# Altium schematic symbol library comp_lib_schem.SchLib: 292 symbols (part 4 of 4)
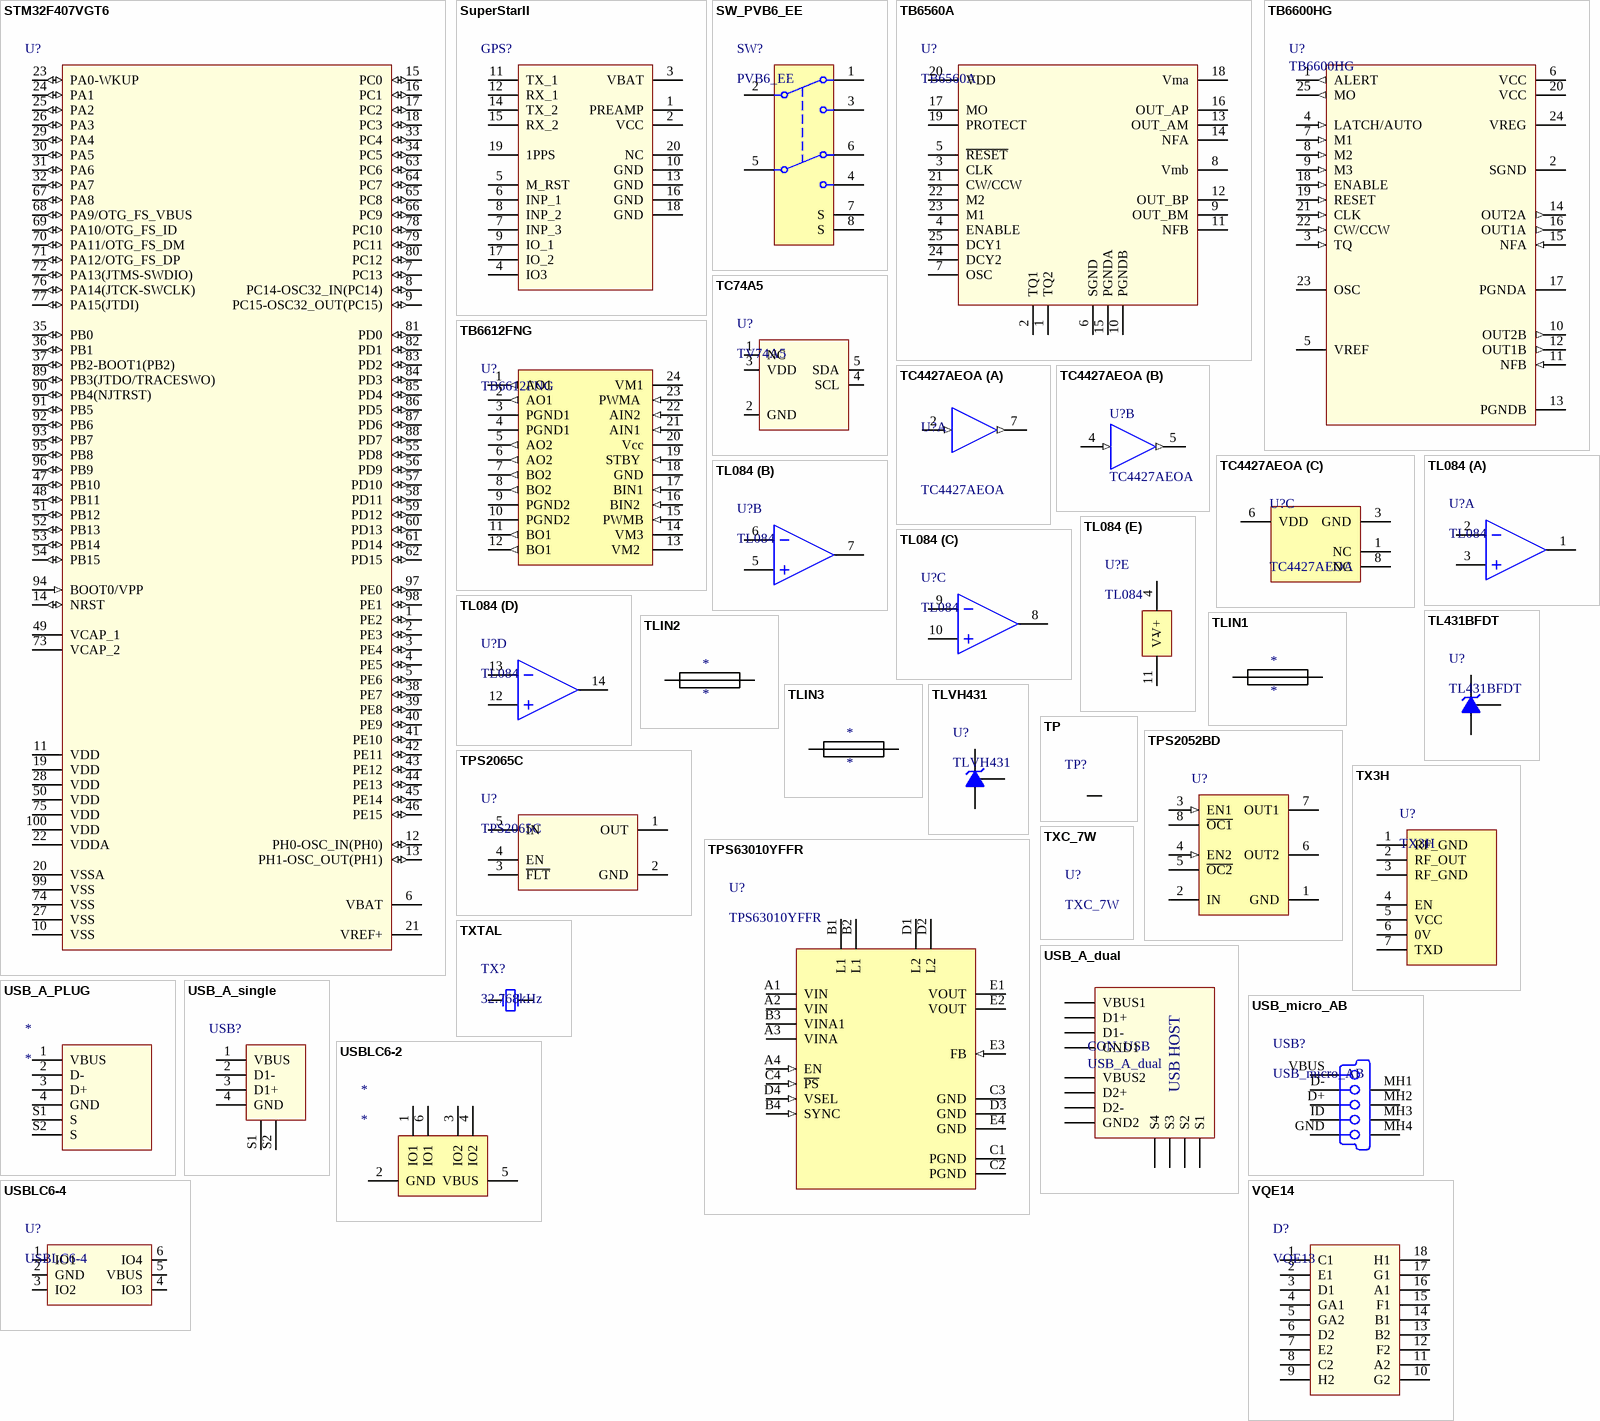
[diagram p24: symbols STM32F407VGT6 to VQE14]

## STM32F407VGT6
designator U?
ARM Cortex-M4 32b MCU+FPU, 210DMIP, 1024 kB Flash, 192+4 kB RAM, Camera, 82 I/Os, 100-pin LQFP, -40 to +85°C, Tray; Internal RAM: 192kB; Operating Frequency (Processor Speed): 168MHz; A/D Converter: 16x12-bit; D/A Converter: 2x12-bit; 16-bit Timers (IC/OC/PWM): 12x16-bit(24/24/30); 32-bit Timer (IC/OC/PWM): 2x32-bit (8/8/8); Other Timer Functions: 2xWDG, RTC, 24-bit down counter; Serial Interface: 3xSPI/2xI2S/2xI2C/3xUSART(IrDa, ISO7816)/3xUART/2xUSB OTG FS/HS, 2xCAN/Ethernet MAC10/100, SDIO; DatasheetVersion: rev2, Jan-2012; PackageVersion: 2012; PackageReference: LQFP100; PackageDescription: 100-Pin Low Profile Quad Flat Package, 14x14 mm Body, 0.5 mm Pitch; ComponentLink1Description: Manufacturer URL; ComponentLink1URL: http://www.st.com/; ComponentLink2Description: STM32F405/7 Datasheet; ComponentLink2URL: http://www.st.com/internet/com/TECHNICAL_RESOURCES/TECHNICAL_LITERATURE/DATASHEET/DM00037051.pdf; ComponentLink3Description: STM32F4 Web Page; ComponentLink3URL: http://www.st.com/internet/mcu/subclass/1521.jsp
footprint LQFP100 (Thin QFP, 100-Leads, Body 14x14mm, Pitch 0.5mm, IPC Low Density)
pins: 1 PE2 (io), 2 PE3 (io), 3 PE4 (io), 4 PE5 (io), 5 PE6 (io), 6 VBAT (power), 7 PC13 (io), 8 PC14-OSC32_IN(PC14) (io), 9 PC15-OSC32_OUT(PC15) (io), 10 VSS (power), 11 VDD (power), 12 PH0-OSC_IN(PH0) (io), 13 PH1-OSC_OUT(PH1) (io), 14 NRST (io), 15 PC0 (io), 16 PC1 (io), 17 PC2 (io), 18 PC3 (io), 19 VDD (power), 20 VSSA (power), 21 VREF+ (power), 22 VDDA (power), 23 PA0-WKUP (io), 24 PA1 (io), 25 PA2 (io), 26 PA3 (io), 27 VSS (power), 28 VDD (power), 29 PA4 (io), 30 PA5 (io), 31 PA6 (io), 32 PA7 (io), 33 PC4 (io), 34 PC5 (io), 35 PB0 (io), 36 PB1 (io), 37 PB2-BOOT1(PB2) (io), 38 PE7 (io), 39 PE8 (io), 40 PE9 (io), 41 PE10 (io), 42 PE11 (io), 43 PE12 (io), 44 PE13 (io), 45 PE14 (io), 46 PE15 (io), 47 PB10 (io), 48 PB11 (io), 49 VCAP_1 (power), 50 VDD (power), 51 PB12 (io), 52 PB13 (io), 53 PB14 (io), 54 PB15 (io), 55 PD8 (io), 56 PD9 (io), 57 PD10 (io), 58 PD11 (io), 59 PD12 (io), 60 PD13 (io), 61 PD14 (io), 62 PD15 (io), 63 PC6 (io), 64 PC7 (io), 65 PC8 (io), 66 PC9 (io), 67 PA8 (io), 68 PA9/OTG_FS_VBUS (io), 69 PA10/OTG_FS_ID (io), 70 PA11/OTG_FS_DM (io), 71 PA12/OTG_FS_DP (io), 72 PA13(JTMS-SWDIO) (io), 73 VCAP_2 (power), 74 VSS (power), 75 VDD (power), 76 PA14(JTCK-SWCLK) (io), 77 PA15(JTDI) (io), 78 PC10 (io), 79 PC11 (io), 80 PC12 (io), 81 PD0 (io), 82 PD1 (io), 83 PD2 (io), 84 PD3 (io), 85 PD4 (io), 86 PD5 (io), 87 PD6 (io), 88 PD7 (io), 89 PB3(JTDO/TRACESWO) (io), 90 PB4(NJTRST) (io), 91 PB5 (io), 92 PB6 (io), 93 PB7 (io), 94 BOOT0/VPP (in), 95 PB8 (io), 96 PB9 (io), 97 PE0 (io), 98 PE1 (io), 99 VSS (power), 100 VDD (power)

## SuperStarII
designator GPS?  (value not drawn)
Novatel GPS
footprint SuperStarII
pins: 1 PREAMP, 2 VCC, 3 VBAT, 4 IO3, 5 M_RST, 6 INP_1, 7 INP_3, 8 INP_2, 9 IO_1, 10 GND, 11 TX_1, 12 RX_1, 13 GND, 14 TX_2, 15 RX_2, 16 GND, 17 IO_2, 18 GND, 19 1PPS, 20 NC

## SW_PVB6_EE
designator SW?, comment PVB6_EE
Low Profile SMT Push Switches
footprint PVB6_EE (DPDT push-push)
pins: 1 U1, 2 C1, 3 L1, 4 L2, 5 C2, 6 U2, 7 S, 8 S

## TB6560A
designator U?
footprint HZIP25-H (TB6560 Horizontal)
pins: 1 TQ2, 2 TQ1, 3 CLK, 4 ENABLE, 5 ~{RESET}, 6 SGND, 7 OSC, 8 Vmb, 9 OUT_BM, 10 PGNDB, 11 NFB, 12 OUT_BP, 13 OUT_AM, 14 NFA, 15 PGNDA, 16 OUT_AP, 17 MO, 18 Vma, 19 PROTECT, 20 VDD, 21 CW/CCW, 22 M2, 23 M1, 24 DCY2, 25 DCY1

## TB6600HG
designator U?
footprint HZIP25_100F
pins: 1 ALERT (out), 2 SGND (power), 3 TQ (in), 4 LATCH/AUTO (in), 5 VREF (power), 6 VCC (power), 7 M1 (in), 8 M2 (in), 9 M3 (in), 10 OUT2B (out), 11 NFB (in), 12 OUT1B (out), 13 PGNDB (power), 14 OUT2A (out), 15 NFA (in), 16 OUT1A (out), 17 PGNDA (power), 18 ENABLE (in), 19 RESET (in), 20 VCC (power), 21 CLK (in), 22 CW/CCW (in), 23 OSC, 24 VREG (power), 25 MO (out)

## TB6612FNG
designator U?
Driver IC for Dual DC motor
footprint SSOP24-P-300
pins: 1 AO1 (out) "chA output1", 2 AO1 (out) "chA output1", 3 PGND1  "Power GND 1", 4 PGND1  "Power GND 1", 5 AO2  (out) "chA output2", 6 AO2  (out) "chA output2", 7 BO2  (out) "chB output2", 8 BO2  (out) "chB output2", 9 PGND2 "Power GND 2", 10 PGND2 "Power GND 2", 11 BO1 (out) "chB output1", 12 BO1 (out) "chB output1", 13 VM2  (power) "Motor supply(2.5V~13.5V)", 14 VM3 (power) "Motor supply(2.5V~13.5V)", 15 PWMB (in) "chB PWM input    /    200kOhm  pull-down at internal", 16  BIN2  (in) "chB input2    /    200k?  pull-down at internal", 17  BIN1 (in) "chB input    /    200k?  pull-down at internal", 18 GND "Small signal GND", 19 STBY  (in) "“L”=standby / 200k?  pull-down at internal", 20 Vcc "Small signal supply (2.7V~5.5V)", 21  AIN1  (in) "chA input1    /    200k?  pull-down at internal", 22  AIN2  (in) "chA input2    /    200k?  pull-down at internal", 23 PWMA  (in) "chA PWM input    /    200k?  pull-down at internal", 24 VM1 (power) "Motor supply(2.5V~13.5V)"

## TC74A5
designator U?, comment TV74A5
footprint SOT23-5 (SOT23, 5-Leads, Body 2.9x1.6mm, Pitch 0.95mm, Lead Span 2.8mm, IPC Medium Density)
pins: 1 NC, 2 GND, 3 VDD, 4 SCL, 5 SDA

## TC4427AEOA
designator U?
1.5A Dual High-Speed Power MOSFET Driver, Non-Inverting, Industrial Temperature; FirstPublished: 29-Jan-2009; DatasheetVersion: revF, Jan-2006; PackageVersion: revBB, Aug-2009; PackageReference: SOIC-OA8; Publisher: Altium Limited; PackageDescription: 8-Lead Plastic Small Outline (OA) - Narrow, 3.90mm Body [SOIC]; Supplier 1: Digi-Key; Supplier Part Number 1: TC4427AEOA-ND; Supplier 2: Farnell; Supplier Part Number 2: 1292285; Supplier 3: Newark; Supplier Part Number 3: 96K4020; Code_IPC: SOIC127P600-8; ComponentLink1Description: Datasheet; ComponentLink1URL: http://ww1.microchip.com/downloads/en/DeviceDoc/21423F.pdf; ComponentLink2Description: Packaging Specification; ComponentLink2URL: http://www.microchip.com/stellent/groups/techpub_sg/documents/packagingspec/en012702.pdf; ComponentLink3Description: Microchip.com Home; ComponentLink3URL: http://www.microchip.com/
footprint SOIC8
part A pins: 2 INA (in), 7 OUTA (out)
part B pins: 4 INB (in), 5 OUTB (out)
part C pins: 1 NC, 3 GND (power), 6 VDD (power), 8 NC

## TL084
designator U?
footprint SOIC14 (SOIC, 14-Leads, Body 8.6x3.9mm, Pitch 1.27mm, IPC Medium Density)
part A pins: 1 OUT1, 2 IN1-, 3 IN1+
part B pins: 5 IN2+, 6 IN2-, 7 OUT2
part C pins: 8 OUT3, 9 IN3-, 10 IN3+
part D pins: 12 IN4+, 13 IN4-, 14 OUT4
part E pins: 4 V+, 11 V-

## TL431BFDT
designator U?
2.5 V adjustable zener diode
footprint SOT23-3; pin to pad A>3 K>1 REF>2
pins: A, K, REF

## TLIN1
designator *
footprint TLIN1
pins: 1, 2

## TLIN2
designator *
footprint TLIN2
pins: 1, 2

## TLIN3
designator *
footprint TLIN3
pins: 0 1, 1 2

## TLVH431
designator U?
footprint SOT23-3; pin to pad A>3 K>2 REF>1
footprint SOT753 (OT753 (SC-74A), NXP); pin to pad A>5 K>3 REF>4
pins: A, K, REF

## TP
designator TP?  (value not drawn)
footprint TP25 (2.5 MM TEST POINT)
footprint TP2
pins: 1 TP?

## TPS2052BD
designator U?
Current-Limited, Power-Distribution Switch, 1 A Current Limit, -40 to 85 degC, 8-pin SOIC (D), Green (RoHS & no Sb/Br); Manufacturer: Texas Instruments; PartNumber: TPS2052BD; Continuous Current(Max)(A): 0.5; Current Limit(A): 1; Enable: Active High; NEMKO: TRUE; Number of Switches: 2; Rating: Catalog; rDS(on) per FET(Typ)(mOhms): 70; Vin(Max)(V): 5.5; Vin(Min)(V): 2.7; DatasheetVersion: SLVS514L; PackageVersion: revM, Jun-2011; PackageReference: D8; PackageDescription: 8-Pin Plastic Small Outline Integrated Circuit, 4.9 x 3.9 mm, Pitch 1.27 mm Pitch; Eco-Plan: Green (RoHS & no Sb/Br); UL Listed: TRUE; Mounting Technology: Surface Mount; Code_JEDEC: MS-012AA; ComponentLink1Description: Datasheet; ComponentLink1URL: http://www.ti.com/general/docs/lit/getliterature.tsp?genericPartNumber=TPS2052B&fileType=pdf
footprint SOIC8
pins: 1 GND (power) "Ground", 2 IN (power) "Input voltage", 3 EN1 (in) "Enable input, logic high turns on power switch IN-OUT1", 4 EN2 (in) "Enable input, logic high turns on power switch IN-OUT2", 5 ~{OC2} (oc) "Overcurrent, open-drain output, active low, IN-OUT2", 6 OUT2 (power) "Power-switch output, IN-OUT2", 7 OUT1 (power) "Power-switch output, IN-OUT1", 8 ~{OC1} (oc) "Overcurrent, open-drain output, active low, IN-OUT1"

## TPS2065C
designator U?
footprint SOT23-5 (SOT23, 5-Leads, Body 2.9x1.6mm, Pitch 0.95mm, Lead Span 2.8mm, IPC Medium Density)
pins: 1 OUT, 2 GND, 3 ~{FLT}, 4 EN, 5 IN

## TPS63010YFFR
designator U?
HIGHLY EFFICIENT, SINGLE INDUCTOR BUCK-BOOST CONVERTER WITH 2A SWITCHES
footprint WCSP20 (TPS63010 DC-DC package)
pins: A1 VIN (power), A2 VIN (power), A3 VINA (power), A4 EN (in), B1 L1 (power), B2 L1 (power), B3 VINA1 (power), B4 SYNC (in), C1 PGND (power), C2 PGND (power), C3 GND (power), C4 ~{PS} (in), D1 L2 (power), D2 L2 (power), D3 GND (power), D4 VSEL (in), E1 VOUT (power), E2 VOUT (power), E3 FB (in), E4 GND (power)

## TX3H
designator U?
869.5MHz FM  transmitter module with a nominal  power output of 450mW
footprint TX3H
pins: 1 RF_GND, 2 RF_OUT, 3 RF_GND, 4 EN, 5 VCC, 6 0V, 7 TXD

## TXC_7W
designator U?
Oscilator

## TXTAL
designator TX?, comment 32.768kHz
footprint ABS25 (TIME XTAL); pin to pad 2>4
pins: 1 OSC1, 2 OSC2

## USB_A_dual
designator CON_USB
footprint USB-67298-4090 (MOLEX 67298-4090 2x USB type A)
pins: D1+, D1-, D2+, D2-, GND1, GND2, S1, S2, S3, S4, VBUS1, VBUS2
text: USB HOST

## USB_A_PLUG
designator *
footprint MC32604 (USB SMD Type A Plug)
pins: 1 VBUS, 2 D-, 3 D+, 4 GND, S1 S, S2 S

## USB_A_single
designator USB?, comment USBA  (value not drawn)
footprint 67643-0910 (67643-0910 MOLEX USB A)
pins: 1 VBUS, 2 D1-, 3 D1+, 4 GND, S1 S, S2 S

## USB_micro_AB
designator USB?
USB_AB
footprint 67803-8020 (MOLEX - 67803-8020); pin to pad D+>3 D->2 GND>5 ID>4 MH1>S MH2>S MH3>S MH4>S VBUS>1
pins: D+ "USB Data + [Green]", D- "USB Data - [White]", GND "Ground [Black]", ID "Not Connected (or joined to pin 5 via resistor)", MH1 Tab "Shell", MH2 Tab "Shell", MH3 Tab "Shell", MH4 Tab "Shell", VBUS "USB Vcc [Red]"

## USBLC6-2
designator *
footprint SOT23-6 (SOT23, 6-Leads, Body 3x1.75mm, Pitch 0.95mm, IPC Medium Density)
pins: 1 IO1, 2 GND, 3 IO2, 4 IO2, 5 VBUS, 6 IO1

## USBLC6-4
designator U?
footprint SOT23-6 (SOT23, 6-Leads, Body 3x1.75mm, Pitch 0.95mm, IPC Medium Density)
pins: 1 IO1, 2 GND, 3 IO2, 4 IO3, 5 VBUS, 6 IO4

## VQE14
designator D?, comment VQE13
7-segment LED display
footprint VQE14 (Seven segment led display)
pins: 1 C1, 2 E1, 3 D1, 4 GA1, 5 GA2, 6 D2, 7 E2, 8 C2, 9 H2, 10 G2, 11 A2, 12 F2, 13 B2, 14 B1, 15 F1, 16 A1, 17 G1, 18 H1

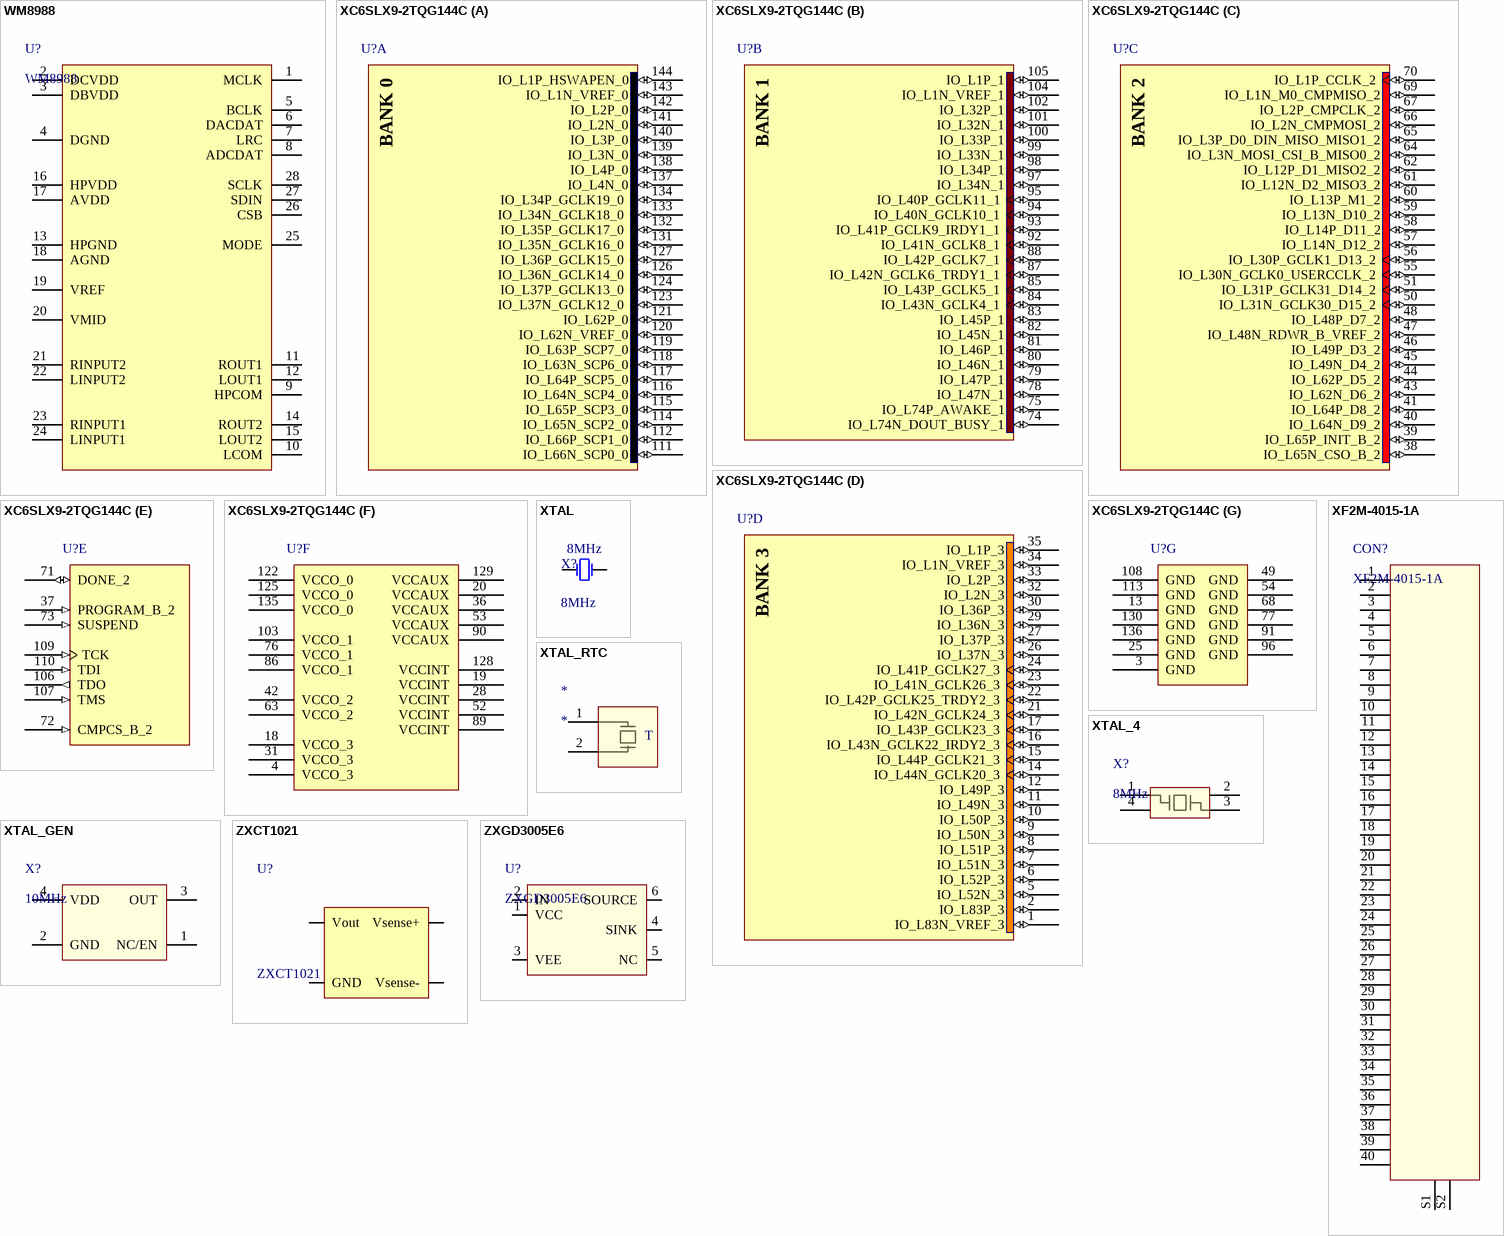
[diagram p21: symbols WM8988 to ZXGD3005E6]

## WM8988
designator U?
footprint QFN28-NOEP
pins: 1 MCLK, 2 DCVDD, 3 DBVDD, 4 DGND, 5 BCLK, 6 DACDAT, 7 LRC, 8 ADCDAT, 9 HPCOM, 10 LCOM, 11 ROUT1, 12 LOUT1, 13 HPGND, 14 ROUT2, 15 LOUT2, 16 HPVDD, 17 AVDD, 18 AGND, 19 VREF, 20 VMID, 21 RINPUT2, 22 LINPUT2, 23 RINPUT1, 24 LINPUT1, 25 MODE, 26 CSB, 27 SDIN, 28 SCLK

## XC6SLX9-2TQG144C
designator U?
Spartan-6 LX 1.2V FPGA, 102 User I/Os, 144-Pin TQFP (0.5mm Pitch), Speed Grade 2, Commercial Grade, Pb-Free; DatasheetVersion: ver1.6, Nov-2010; PackageVersion: ver1.2, Jun-2004; PackageReference: TQG144; PackageDescription: 144-Pin Thin Quad Flat Pack (TQG144) - Pb-Free; Code_JEDEC: MS-026-BFB; ComponentLink1Description: Manufacturer URL; ComponentLink1URL: http://www.xilinx.com/; ComponentLink2Description: Spartan-6 Datasheet; ComponentLink2URL: http://www.xilinx.com/support/documentation/data_sheets/ds160.pdf; ComponentLink3Description: Spartan-6 Documents; ComponentLink3URL: http://www.xilinx.com/support/documentation/spartan-6.htm
footprint TQG144_N (Thin QFP, 144-Leads, Body 20x20mm, Pitch 0.5mm, IPC Medium Density)
part A pins: 111 IO_L66N_SCP0_0 (io), 112 IO_L66P_SCP1_0 (io), 114 IO_L65N_SCP2_0 (io), 115 IO_L65P_SCP3_0 (io), 116 IO_L64N_SCP4_0 (io), 117 IO_L64P_SCP5_0 (io), 118 IO_L63N_SCP6_0 (io), 119 IO_L63P_SCP7_0 (io), 120 IO_L62N_VREF_0 (io), 121 IO_L62P_0 (io), 123 IO_L37N_GCLK12_0 (io), 124 IO_L37P_GCLK13_0 (io), 126 IO_L36N_GCLK14_0 (io), 127 IO_L36P_GCLK15_0 (io), 131 IO_L35N_GCLK16_0 (io), 132 IO_L35P_GCLK17_0 (io), 133 IO_L34N_GCLK18_0 (io), 134 IO_L34P_GCLK19_0 (io), 137 IO_L4N_0 (io), 138 IO_L4P_0 (io), 139 IO_L3N_0 (io), 140 IO_L3P_0 (io), 141 IO_L2N_0 (io), 142 IO_L2P_0 (io), 143 IO_L1N_VREF_0 (io), 144 IO_L1P_HSWAPEN_0 (io)
part B pins: 74 IO_L74N_DOUT_BUSY_1 (io), 75 IO_L74P_AWAKE_1 (io), 78 IO_L47N_1 (io), 79 IO_L47P_1 (io), 80 IO_L46N_1 (io), 81 IO_L46P_1 (io), 82 IO_L45N_1 (io), 83 IO_L45P_1 (io), 84 IO_L43N_GCLK4_1 (io), 85 IO_L43P_GCLK5_1 (io), 87 IO_L42N_GCLK6_TRDY1_1 (io), 88 IO_L42P_GCLK7_1 (io), 92 IO_L41N_GCLK8_1 (io), 93 IO_L41P_GCLK9_IRDY1_1 (io), 94 IO_L40N_GCLK10_1 (io), 95 IO_L40P_GCLK11_1 (io), 97 IO_L34N_1 (io), 98 IO_L34P_1 (io), 99 IO_L33N_1 (io), 100 IO_L33P_1 (io), 101 IO_L32N_1 (io), 102 IO_L32P_1 (io), 104 IO_L1N_VREF_1 (io), 105 IO_L1P_1 (io)
part C pins: 38 IO_L65N_CSO_B_2 (io), 39 IO_L65P_INIT_B_2 (io), 40 IO_L64N_D9_2 (io), 41 IO_L64P_D8_2 (io), 43 IO_L62N_D6_2 (io), 44 IO_L62P_D5_2 (io), 45 IO_L49N_D4_2 (io), 46 IO_L49P_D3_2 (io), 47 IO_L48N_RDWR_B_VREF_2 (io), 48 IO_L48P_D7_2 (io), 50 IO_L31N_GCLK30_D15_2 (io), 51 IO_L31P_GCLK31_D14_2 (io), 55 IO_L30N_GCLK0_USERCCLK_2 (io), 56 IO_L30P_GCLK1_D13_2 (io), 57 IO_L14N_D12_2 (io), 58 IO_L14P_D11_2 (io), 59 IO_L13N_D10_2 (io), 60 IO_L13P_M1_2 (io), 61 IO_L12N_D2_MISO3_2 (io), 62 IO_L12P_D1_MISO2_2 (io), 64 IO_L3N_MOSI_CSI_B_MISO0_2 (io), 65 IO_L3P_D0_DIN_MISO_MISO1_2 (io), 66 IO_L2N_CMPMOSI_2 (io), 67 IO_L2P_CMPCLK_2 (io), 69 IO_L1N_M0_CMPMISO_2 (io), 70 IO_L1P_CCLK_2 (io)
part D pins: 1 IO_L83N_VREF_3 (io), 2 IO_L83P_3 (io), 5 IO_L52N_3 (io), 6 IO_L52P_3 (io), 7 IO_L51N_3 (io), 8 IO_L51P_3 (io), 9 IO_L50N_3 (io), 10 IO_L50P_3 (io), 11 IO_L49N_3 (io), 12 IO_L49P_3 (io), 14 IO_L44N_GCLK20_3 (io), 15 IO_L44P_GCLK21_3 (io), 16 IO_L43N_GCLK22_IRDY2_3 (io), 17 IO_L43P_GCLK23_3 (io), 21 IO_L42N_GCLK24_3 (io), 22 IO_L42P_GCLK25_TRDY2_3 (io), 23 IO_L41N_GCLK26_3 (io), 24 IO_L41P_GCLK27_3 (io), 26 IO_L37N_3 (io), 27 IO_L37P_3 (io), 29 IO_L36N_3 (io), 30 IO_L36P_3 (io), 32 IO_L2N_3 (io), 33 IO_L2P_3 (io), 34 IO_L1N_VREF_3 (io), 35 IO_L1P_3 (io)
part E pins: 37 PROGRAM_B_2 (in), 71 DONE_2 (io), 72 CMPCS_B_2 (in), 73 SUSPEND (in), 106 TDO (out), 107 TMS (in), 109 TCK (in), 110 TDI (in)
part F pins: 4 VCCO_3 (power), 18 VCCO_3 (power), 19 VCCINT (power), 20 VCCAUX (power), 28 VCCINT (power), 31 VCCO_3 (power), 36 VCCAUX (power), 42 VCCO_2 (power), 52 VCCINT (power), 53 VCCAUX (power), 63 VCCO_2 (power), 76 VCCO_1 (power), 86 VCCO_1 (power), 89 VCCINT (power), 90 VCCAUX (power), 103 VCCO_1 (power), 122 VCCO_0 (power), 125 VCCO_0 (power), 128 VCCINT (power), 129 VCCAUX (power), 135 VCCO_0 (power)
part G pins: 3 GND (power), 13 GND (power), 25 GND (power), 49 GND (power), 54 GND (power), 68 GND (power), 77 GND (power), 91 GND (power), 96 GND (power), 108 GND (power), 113 GND (power), 130 GND (power), 136 GND (power)
part A text: BANK 0
part B text: BANK 1
part C text: BANK 2
part D text: BANK 3

## XF2M-4015-1A
designator CON?
footprint XF2M-4015-1A (Omron FPC connector)
pins: 1, 2, 3, 4, 5, 6, 7, 8, 9, 10, 11, 12, 13, 14, 15, 16, 17, 18, 19, 20, 21, 22, 23, 24, 25, 26, 27, 28, 29, 30, 31, 32, 33, 34, 35, 36, 37, 38, 39, 40, S1, S2

## XTAL
designator X?, comment 8MHz
Oscillator; Unit Price1: *; Unit Price2: *; Value: 8MHz
footprint HC49/4H_SMX
footprint HC49-4H_THT (HC49-4H package for oscillator)
footprint XT324 (Crystal); pin to pad 2>3
pins: 1 OSC1, 2 OSC2

## XTAL_4
designator X?, comment 8MHz
Crystal; Value: 8MHz
footprint XT324 (Crystal)
footprint ABMM2 (Crystal Oscilator)
footprint TXC_7M (SMD Crystal)
pins: 1, 2, 3, 4

## XTAL_GEN
designator X?, comment 10MHz
value: 10MHz
footprint XTAL_OSC
footprint CFPS-72 (CFPS-72 Standard 7 x 5 crystal oscillators)
pins: 1 NC/EN, 2 GND, 3 OUT, 4 VDD

## XTAL_RTC
designator *
footprint ABS10 (XTAL)
pins: 1, 2
text: T

## ZXCT1021
designator U?
Low offset high-side current monitor
footprint SOT23-5 (SOT23, 5-Leads, Body 2.9x1.6mm, Pitch 0.95mm, Lead Span 2.8mm, IPC Medium Density)
pins: 1 Flag hidden, 2 GND, 3 Vout, 4 Vsense+, 5 Vsense-

## ZXGD3005E6
designator U?
footprint SOT26 (SOT26, 6-Leads, Body)
pins: 1 VCC, 2 IN, 3 VEE, 4 SINK, 5 NC, 6 SOURCE